# Altium integrated library Maxim Logic Switch.IntLib: 311 symbols (part 6 of 6)
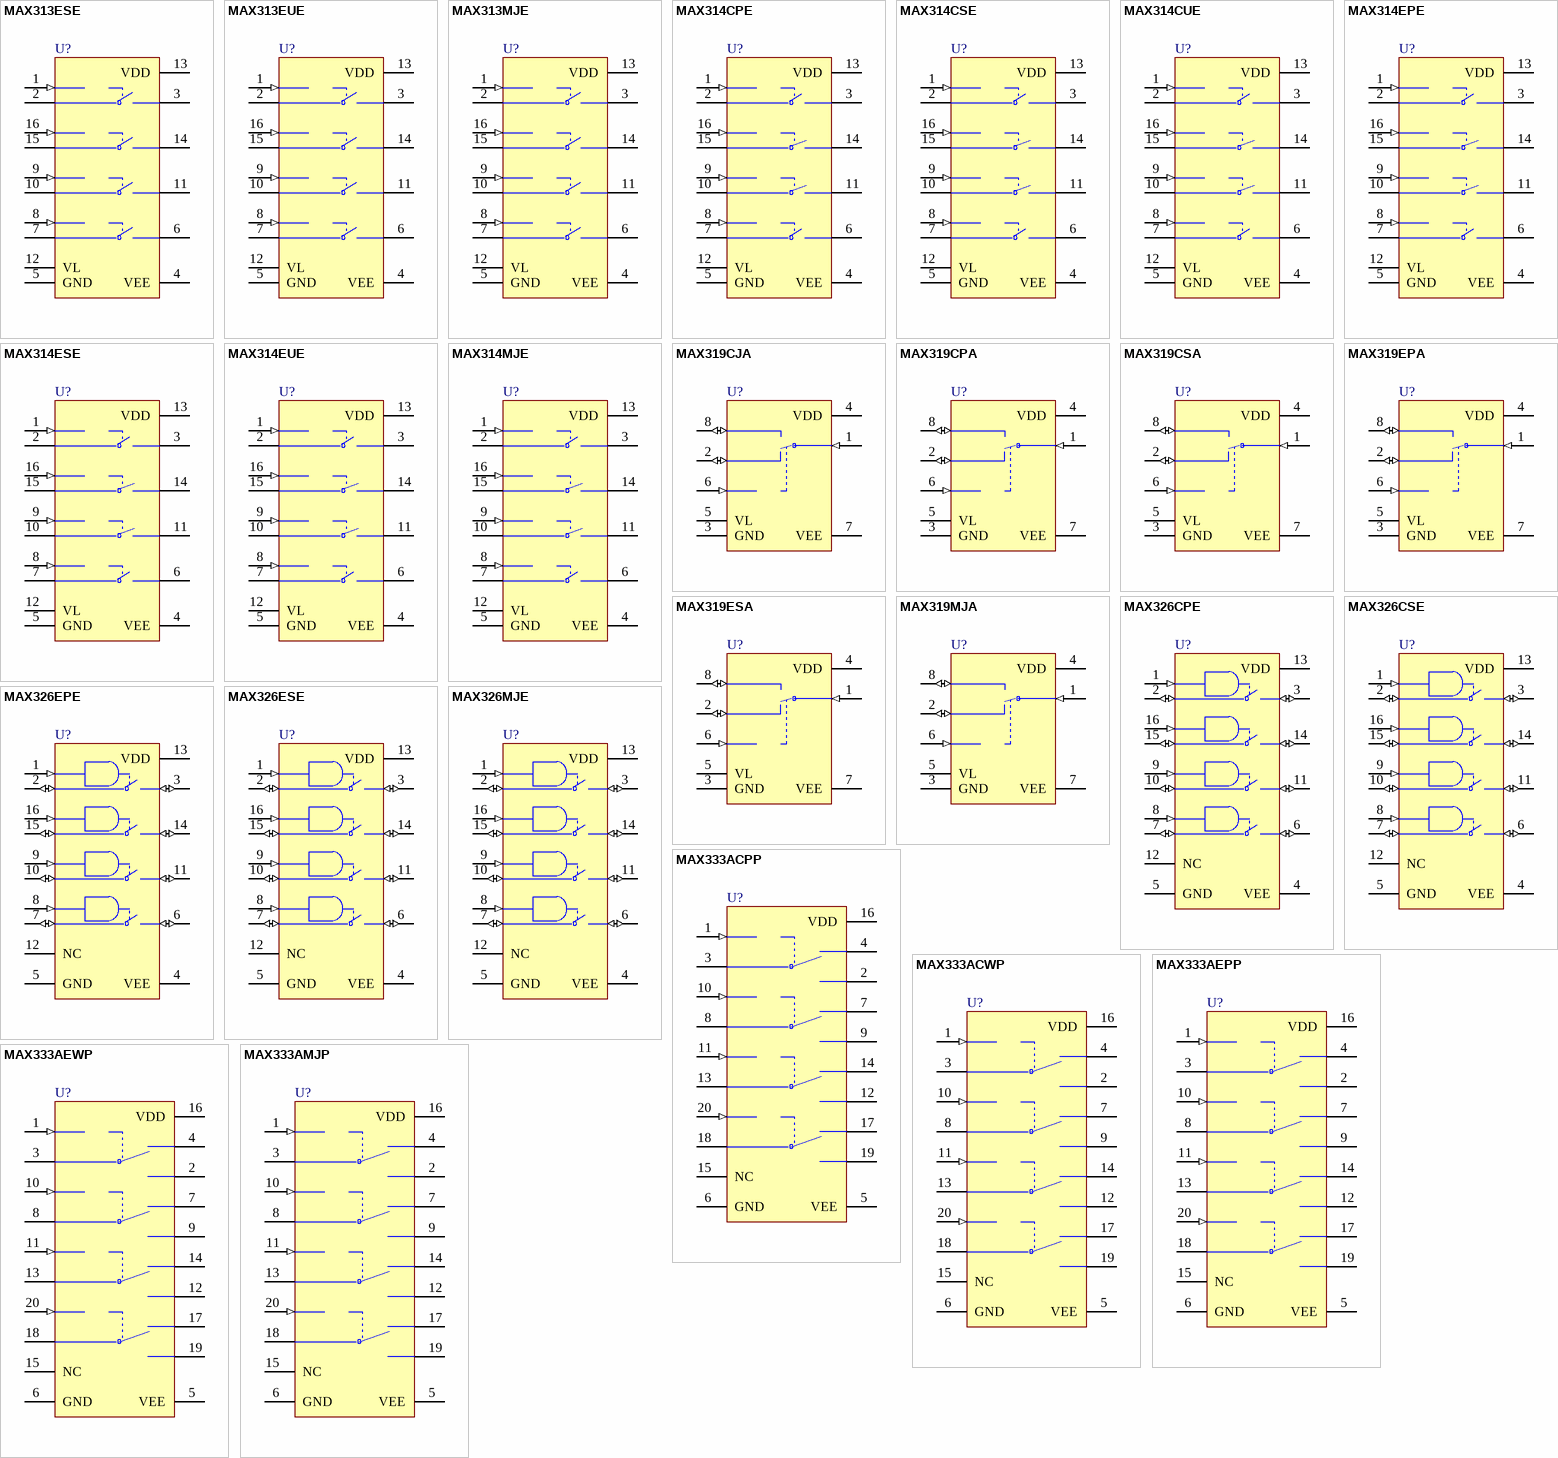
[diagram p15: symbols MAX313ESE to MAX333AMJP]

## MAX326EPE
designator U?
Quad, SPST, Ultra-Low Leakage, CMOS Analog Switch; Published: 16-Jan-2001; LatestRevisionDate: 29-May-2009; LatestRevisionNote: Component Body Added.; DatasheetVersion: Jul-1996; PackageVersion: 1997; PackageReference: PE16A; Publisher: Altium Limited; PackageDescription: DIP, 16-Pin, Row Spacing 7.62 mm, Pitch 2.54 mm; Code_JEDEC: MS-001-BB; ComponentLink1Description: Manufacturer Link; ComponentLink1URL: http://www.maxim-ic.com/; ComponentLink2Description: Datasheet; ComponentLink2URL: http://pdfserv.maxim-ic.com/en/ds/MAX326-MAX327.pdf
footprint PE16A (DIP, 16-Leads, Row Spacing 7.62mm, Pitch 2.54mm, Body 19.18x6.99mm)
3D model PE16 (DIP, 16-Pin, Row Spacing 7.62 mm, Pitch 2.54 mm)
pins: 1 IN1 (in), 2 D1 (io), 3 S1 (io), 4 VEE (power), 5 GND (power), 6 S4 (io), 7 D4 (io), 8 IN4 (in), 9 IN3 (in), 10 D3 (io), 11 S3 (io), 12 NC, 13 VDD (power), 14 S2 (io), 15 D2 (io), 16 IN2 (in)

## MAX326ESE
designator U?
Quad, SPST, Ultra-Low Leakage, CMOS Analog Switch; Published: 16-Jan-2001; LatestRevisionDate: 13-Apr-2006; LatestRevisionNote: IPC-7351 Footprint Added.; DatasheetVersion: Jul-1996; PackageReference: NSO16; Publisher: Altium Limited; PackageDescription: 16-Pin Small Outline Integrated Circuit 1.27 mm Pitch; Code_JEDEC: MS-012-AC; Code_IPC: SOIC127P600-16; ComponentLink1Description: Manufacturer Link; ComponentLink1URL: http://www.maxim-ic.com/; ComponentLink2Description: Datasheet; ComponentLink2URL: http://pdfserv.maxim-ic.com/en/ds/MAX326-MAX327.pdf
footprint NSO16_N (SOIC, 16-Leads, Body 9.9x3.9mm, Pitch 1.27mm, IPC Medium Density)
footprint NSO16_L (SOIC, 16-Leads, Body 9.9x3.9mm, Pitch 1.27mm, IPC High Density)
footprint NSO16_M (SOIC, 16-Leads, Body 9.9x3.9mm, Pitch 1.27mm, IPC Low Density)
3D model NSO16 (16-Pin Small Outline Integrated Circuit 1.27 mm Pitch)
pins: 1 IN1 (in), 2 D1 (io), 3 S1 (io), 4 VEE (power), 5 GND (power), 6 S4 (io), 7 D4 (io), 8 IN4 (in), 9 IN3 (in), 10 D3 (io), 11 S3 (io), 12 NC, 13 VDD (power), 14 S2 (io), 15 D2 (io), 16 IN2 (in)

## MAX326MJE
designator U?
Quad, SPST, Ultra-Low Leakage, CMOS Analog Switch; Published: 16-Jan-2001; LatestRevisionDate: 29-May-2009; LatestRevisionNote: Component Body Added.; DatasheetVersion: Jul-1996; PackageVersion: 1996; PackageReference: JE16; Publisher: Altium Limited; PackageDescription: DIP, 16-Pin, Row Spacing 7.62 mm, Pitch 2.54 mm; ComponentLink1Description: Manufacturer Link; ComponentLink1URL: http://www.maxim-ic.com/; ComponentLink2Description: Datasheet; ComponentLink2URL: http://pdfserv.maxim-ic.com/en/ds/MAX326-MAX327.pdf
footprint JE16 (DIP, 16-Leads, Row Spacing 7.62mm, Pitch 2.54mm, Body 20.37x6.73mm)
3D model JE16 (DIP, 16-Pin, Row Spacing 7.62 mm, Pitch 2.54 mm)
pins: 1 IN1 (in), 2 D1 (io), 3 S1 (io), 4 VEE (power), 5 GND (power), 6 S4 (io), 7 D4 (io), 8 IN4 (in), 9 IN3 (in), 10 D3 (io), 11 S3 (io), 12 NC, 13 VDD (power), 14 S2 (io), 15 D2 (io), 16 IN2 (in)

## MAX333ACPP
designator U?
Precision, Quad, SPDT, CMOS Analog Switch; Published: 16-Jan-2001; LatestRevisionDate: 29-May-2009; LatestRevisionNote: Component Body Added.; DatasheetVersion: Jun-1999; PackageVersion: RevB, 21-0043; PackageReference: PP20; Publisher: Altium Limited; PackageDescription: DIP, 20-Pin, Row Spacing 7.62 mm, Pitch 2.54 mm; Code_JEDEC: MS-001-AE; ComponentLink1Description: Manufacturer Link; ComponentLink1URL: http://www.maxim-ic.com/; ComponentLink2Description: Datasheet; ComponentLink2URL: http://pdfserv.maxim-ic.com/en/ds/MAX333A.pdf
footprint PP20 (DIP, 20-Leads, Row Spacing 7.62mm, Pitch 2.54mm, Body 26.16x7.24mm)
3D model PP20 (DIP, 20-Pin, Row Spacing 7.62 mm, Pitch 2.54 mm)
pins: 1 IN1 (in), 2 NO1, 3 COM1, 4 NC1, 5 VEE (power), 6 GND (power), 7 NC2, 8 COM2, 9 NO2, 10 IN2 (in), 11 IN3 (in), 12 NO3, 13 COM3, 14 NC3, 15 NC, 16 VDD (power), 17 NC4, 18 COM4, 19 NO4, 20 IN4 (in)

## MAX333ACWP
designator U?
Precision, Quad, SPDT, CMOS Analog Switch; Published: 16-Jan-2001; LatestRevisionDate: 13-Apr-2006; LatestRevisionNote: IPC-7351 Footprint Added.; DatasheetVersion: Jun-1999; PackageReference: WSO20; Publisher: Altium Limited; PackageDescription: 20-Pin Small Outline Integrated Circuit 1.27 mm Pitch; Code_JEDEC: MS-013-AC; Code_IPC: SOIC127P1030-20; ComponentLink1Description: Manufacturer Link; ComponentLink1URL: http://www.maxim-ic.com/; ComponentLink2Description: Datasheet; ComponentLink2URL: http://pdfserv.maxim-ic.com/en/ds/MAX333A.pdf
footprint WSO20_N (SOIC, 20-Leads, Body 12.8x7.5mm, Pitch 1.27mm, IPC Medium Density)
footprint WSO20_L (SOIC, 20-Leads, Body 12.8x7.5mm, Pitch 1.27mm, IPC High Density)
footprint WSO20_M (SOIC, 20-Leads, Body 12.8x7.5mm, Pitch 1.27mm, IPC Low Density)
3D model WSO20 (20-Pin Small Outline Integrated Circuit 1.27 mm Pitch)
pins: 1 IN1 (in), 2 NO1, 3 COM1, 4 NC1, 5 VEE (power), 6 GND (power), 7 NC2, 8 COM2, 9 NO2, 10 IN2 (in), 11 IN3 (in), 12 NO3, 13 COM3, 14 NC3, 15 NC, 16 VDD (power), 17 NC4, 18 COM4, 19 NO4, 20 IN4 (in)

## MAX333AEPP
designator U?
Precision, Quad, SPDT, CMOS Analog Switch; Published: 16-Jan-2001; LatestRevisionDate: 29-May-2009; LatestRevisionNote: Component Body Added.; DatasheetVersion: Jun-1999; PackageVersion: RevB, 21-0043; PackageReference: PP20; Publisher: Altium Limited; PackageDescription: DIP, 20-Pin, Row Spacing 7.62 mm, Pitch 2.54 mm; Code_JEDEC: MS-001-AE; ComponentLink1Description: Manufacturer Link; ComponentLink1URL: http://www.maxim-ic.com/; ComponentLink2Description: Datasheet; ComponentLink2URL: http://pdfserv.maxim-ic.com/en/ds/MAX333A.pdf
footprint PP20 (DIP, 20-Leads, Row Spacing 7.62mm, Pitch 2.54mm, Body 26.16x7.24mm)
3D model PP20 (DIP, 20-Pin, Row Spacing 7.62 mm, Pitch 2.54 mm)
pins: 1 IN1 (in), 2 NO1, 3 COM1, 4 NC1, 5 VEE (power), 6 GND (power), 7 NC2, 8 COM2, 9 NO2, 10 IN2 (in), 11 IN3 (in), 12 NO3, 13 COM3, 14 NC3, 15 NC, 16 VDD (power), 17 NC4, 18 COM4, 19 NO4, 20 IN4 (in)

## MAX333AEWP
designator U?
Precision, Quad, SPDT, CMOS Analog Switch; Published: 16-Jan-2001; LatestRevisionDate: 13-Apr-2006; LatestRevisionNote: IPC-7351 Footprint Added.; DatasheetVersion: Jun-1999; PackageReference: WSO20; Publisher: Altium Limited; PackageDescription: 20-Pin Small Outline Integrated Circuit 1.27 mm Pitch; Code_JEDEC: MS-013-AC; Code_IPC: SOIC127P1030-20; ComponentLink1Description: Manufacturer Link; ComponentLink1URL: http://www.maxim-ic.com/; ComponentLink2Description: Datasheet; ComponentLink2URL: http://pdfserv.maxim-ic.com/en/ds/MAX333A.pdf
footprint WSO20_N (SOIC, 20-Leads, Body 12.8x7.5mm, Pitch 1.27mm, IPC Medium Density)
footprint WSO20_L (SOIC, 20-Leads, Body 12.8x7.5mm, Pitch 1.27mm, IPC High Density)
footprint WSO20_M (SOIC, 20-Leads, Body 12.8x7.5mm, Pitch 1.27mm, IPC Low Density)
3D model WSO20 (20-Pin Small Outline Integrated Circuit 1.27 mm Pitch)
pins: 1 IN1 (in), 2 NO1, 3 COM1, 4 NC1, 5 VEE (power), 6 GND (power), 7 NC2, 8 COM2, 9 NO2, 10 IN2 (in), 11 IN3 (in), 12 NO3, 13 COM3, 14 NC3, 15 NC, 16 VDD (power), 17 NC4, 18 COM4, 19 NO4, 20 IN4 (in)

## MAX333AMJP
designator U?
Precision, Quad, SPDT, CMOS Analog Switch; Published: 16-Jan-2001; LatestRevisionDate: 29-May-2009; LatestRevisionNote: Component Body Added.; DatasheetVersion: Jun-1999; PackageVersion: 1996; PackageReference: JP20; Publisher: Altium Limited; PackageDescription: DIP, 20-Pin, Row Spacing 7.62 mm, Pitch 2.54 mm; Code_JEDEC: MS-001-AD; ComponentLink1Description: Manufacturer Link; ComponentLink1URL: http://www.maxim-ic.com/; ComponentLink2Description: Datasheet; ComponentLink2URL: http://pdfserv.maxim-ic.com/en/ds/MAX333A.pdf
footprint JP20 (DIP, 20-Leads, Row Spacing 7.62mm, Pitch 2.54mm, Body 25.91x6.73mm)
3D model PP20 (DIP, 20-Pin, Row Spacing 7.62 mm, Pitch 2.54 mm)
pins: 1 IN1 (in), 2 NO1, 3 COM1, 4 NC1, 5 VEE (power), 6 GND (power), 7 NC2, 8 COM2, 9 NO2, 10 IN2 (in), 11 IN3 (in), 12 NO3, 13 COM3, 14 NC3, 15 NC, 16 VDD (power), 17 NC4, 18 COM4, 19 NO4, 20 IN4 (in)

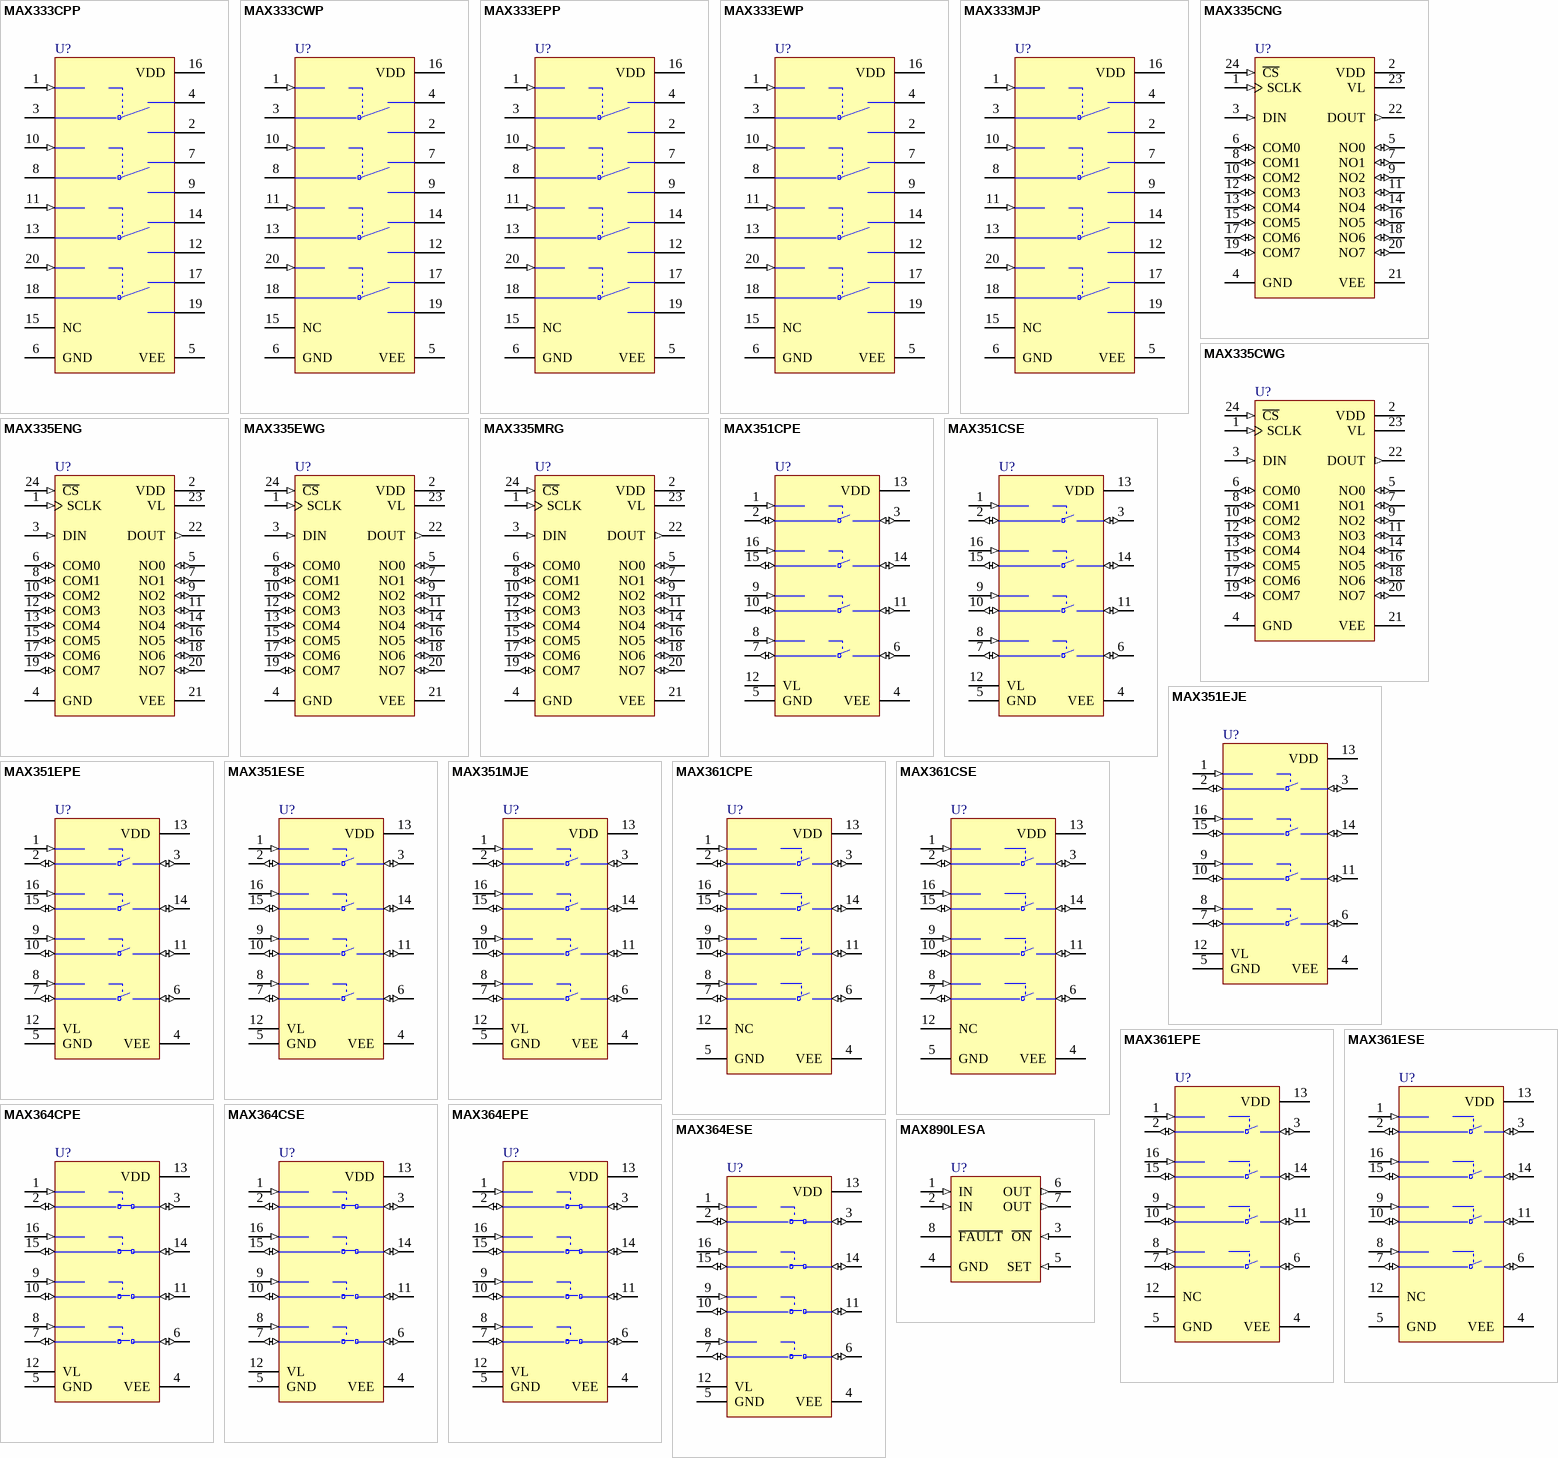
[diagram p9: symbols MAX333CPP to MAX890LESA]

## MAX333CPP
designator U?
Quad SPDT CMOS Analog Switch; Published: 16-Jan-2001; LatestRevisionDate: 29-May-2009; LatestRevisionNote: Component Body Added.; DatasheetVersion: 1990; PackageVersion: RevB, 21-0043; PackageReference: PP20; Publisher: Altium Limited; PackageDescription: DIP, 20-Pin, Row Spacing 7.62 mm, Pitch 2.54 mm; Code_JEDEC: MS-001-AE; ComponentLink1Description: Manufacturer Link; ComponentLink1URL: http://www.maxim-ic.com/
footprint PP20 (DIP, 20-Leads, Row Spacing 7.62mm, Pitch 2.54mm, Body 26.16x7.24mm)
3D model PP20 (DIP, 20-Pin, Row Spacing 7.62 mm, Pitch 2.54 mm)
pins: 1 IN1 (in), 2 NO1, 3 COM1, 4 NC1, 5 VEE (power), 6 GND (power), 7 NC2, 8 COM2, 9 NO2, 10 IN2 (in), 11 IN3 (in), 12 NO3, 13 COM3, 14 NC3, 15 NC, 16 VDD (power), 17 NC4, 18 COM4, 19 NO4, 20 IN4 (in)

## MAX333CWP
designator U?
Quad SPDT CMOS Analog Switch; Published: 16-Jan-2001; LatestRevisionDate: 13-Apr-2006; LatestRevisionNote: IPC-7351 Footprint Added.; DatasheetVersion: 1990; PackageReference: WSO20; Publisher: Altium Limited; PackageDescription: 20-Pin Small Outline Integrated Circuit 1.27 mm Pitch; Code_JEDEC: MS-013-AC; Code_IPC: SOIC127P1030-20; ComponentLink1Description: Manufacturer Link; ComponentLink1URL: http://www.maxim-ic.com/
footprint WSO20_N (SOIC, 20-Leads, Body 12.8x7.5mm, Pitch 1.27mm, IPC Medium Density)
footprint WSO20_L (SOIC, 20-Leads, Body 12.8x7.5mm, Pitch 1.27mm, IPC High Density)
footprint WSO20_M (SOIC, 20-Leads, Body 12.8x7.5mm, Pitch 1.27mm, IPC Low Density)
3D model WSO20 (20-Pin Small Outline Integrated Circuit 1.27 mm Pitch)
pins: 1 IN1 (in), 2 NO1, 3 COM1, 4 NC1, 5 VEE (power), 6 GND (power), 7 NC2, 8 COM2, 9 NO2, 10 IN2 (in), 11 IN3 (in), 12 NO3, 13 COM3, 14 NC3, 15 NC, 16 VDD (power), 17 NC4, 18 COM4, 19 NO4, 20 IN4 (in)

## MAX333EPP
designator U?
Quad SPDT CMOS Analog Switch; Published: 16-Jan-2001; LatestRevisionDate: 29-May-2009; LatestRevisionNote: Component Body Added.; DatasheetVersion: 1990; PackageVersion: RevB, 21-0043; PackageReference: PP20; Publisher: Altium Limited; PackageDescription: DIP, 20-Pin, Row Spacing 7.62 mm, Pitch 2.54 mm; Code_JEDEC: MS-001-AE; ComponentLink1Description: Manufacturer Link; ComponentLink1URL: http://www.maxim-ic.com/
footprint PP20 (DIP, 20-Leads, Row Spacing 7.62mm, Pitch 2.54mm, Body 26.16x7.24mm)
3D model PP20 (DIP, 20-Pin, Row Spacing 7.62 mm, Pitch 2.54 mm)
pins: 1 IN1 (in), 2 NO1, 3 COM1, 4 NC1, 5 VEE (power), 6 GND (power), 7 NC2, 8 COM2, 9 NO2, 10 IN2 (in), 11 IN3 (in), 12 NO3, 13 COM3, 14 NC3, 15 NC, 16 VDD (power), 17 NC4, 18 COM4, 19 NO4, 20 IN4 (in)

## MAX333EWP
designator U?
Quad SPDT CMOS Analog Switch; Published: 16-Jan-2001; LatestRevisionDate: 13-Apr-2006; LatestRevisionNote: IPC-7351 Footprint Added.; DatasheetVersion: 1990; PackageReference: WSO20; Publisher: Altium Limited; PackageDescription: 20-Pin Small Outline Integrated Circuit 1.27 mm Pitch; Code_JEDEC: MS-013-AC; Code_IPC: SOIC127P1030-20; ComponentLink1Description: Manufacturer Link; ComponentLink1URL: http://www.maxim-ic.com/
footprint WSO20_N (SOIC, 20-Leads, Body 12.8x7.5mm, Pitch 1.27mm, IPC Medium Density)
footprint WSO20_L (SOIC, 20-Leads, Body 12.8x7.5mm, Pitch 1.27mm, IPC High Density)
footprint WSO20_M (SOIC, 20-Leads, Body 12.8x7.5mm, Pitch 1.27mm, IPC Low Density)
3D model WSO20 (20-Pin Small Outline Integrated Circuit 1.27 mm Pitch)
pins: 1 IN1 (in), 2 NO1, 3 COM1, 4 NC1, 5 VEE (power), 6 GND (power), 7 NC2, 8 COM2, 9 NO2, 10 IN2 (in), 11 IN3 (in), 12 NO3, 13 COM3, 14 NC3, 15 NC, 16 VDD (power), 17 NC4, 18 COM4, 19 NO4, 20 IN4 (in)

## MAX333MJP
designator U?
Quad SPDT CMOS Analog Switch; Published: 16-Jan-2001; LatestRevisionDate: 29-May-2009; LatestRevisionNote: Component Body Added.; DatasheetVersion: 1990; PackageVersion: 1990; PackageReference: JP20A; Publisher: Altium Limited; PackageDescription: DIP, 20-Pin, Row Spacing 7.62 mm, Pitch 2.54 mm; ComponentLink1Description: Manufacturer Link; ComponentLink1URL: http://www.maxim-ic.com/
footprint JP20A (DIP, 20-Leads, Row Spacing 7.62mm, Pitch 2.54mm, Body 24.13x6.49mm)
3D model JP20A (DIP, 20-Pin, Row Spacing 7.62 mm, Pitch 2.54 mm)
pins: 1 IN1 (in), 2 NO1, 3 COM1, 4 NC1, 5 VEE (power), 6 GND (power), 7 NC2, 8 COM2, 9 NO2, 10 IN2 (in), 11 IN3 (in), 12 NO3, 13 COM3, 14 NC3, 15 NC, 16 VDD (power), 17 NC4, 18 COM4, 19 NO4, 20 IN4 (in)

## MAX335CNG
designator U?
Serial Controlled, 8-Channel SPST Switch; Published: 16-Jan-2001; LatestRevisionDate: 29-May-2009; LatestRevisionNote: Component Body Added.; DatasheetVersion: Jul-1996; PackageReference: NG24B; Publisher: Altium Limited; PackageDescription: DIP, 24-Pin, Row Spacing 7.62 mm, Pitch 2.54 mm; Code_JEDEC: MS-001-AF; ComponentLink1Description: Manufacturer Link; ComponentLink1URL: http://www.maxim-ic.com/; ComponentLink2Description: Datasheet; ComponentLink2URL: http://pdfserv.maxim-ic.com/en/ds/MAX335.pdf
footprint NG24B (DIP, 24-Leads, Row Spacing 7.62mm, Pitch 2.54mm, Body 31.75x6.61mm)
3D model NG24 (DIP, 24-Pin, Row Spacing 7.62 mm, Pitch 2.54 mm)
pins: 1 SCLK (in), 2 VDD (power), 3 DIN (in), 4 GND (power), 5 NO0 (io), 6 COM0 (io), 7 NO1 (io), 8 COM1 (io), 9 NO2 (io), 10 COM2 (io), 11 NO3 (io), 12 COM3 (io), 13 COM4 (io), 14 NO4 (io), 15 COM5 (io), 16 NO5 (io), 17 COM6 (io), 18 NO6 (io), 19 COM7 (io), 20 NO7 (io), 21 VEE (power), 22 DOUT (out), 23 VL (power), 24 ~{CS} (in)

## MAX335CWG
designator U?
Serial Controlled, 8-Channel SPST Switch; Published: 16-Jan-2001; LatestRevisionDate: 13-Apr-2006; LatestRevisionNote: IPC-7351 Footprint Added.; DatasheetVersion: Jul-1996; PackageReference: WSO24; Publisher: Altium Limited; PackageDescription: 24-Pin Small Outline Integrated Circuit 1.27 mm Pitch; ComponentLink1Description: Manufacturer Link; ComponentLink1URL: http://www.maxim-ic.com/; ComponentLink2Description: Datasheet; ComponentLink2URL: http://pdfserv.maxim-ic.com/en/ds/MAX335.pdf
footprint WSO24_N (SOIC, 24-Leads, Body 15.4x7.5mm, Pitch 1.27mm, IPC Medium Density)
footprint WSO24_L (SOIC, 24-Leads, Body 15.4x7.5mm, Pitch 1.27mm, IPC High Density)
footprint WSO24_M (SOIC, 24-Leads, Body 15.4x7.5mm, Pitch 1.27mm, IPC Low Density)
3D model WSO24 (24-Pin Small Outline Integrated Circuit 1.27 mm Pitch)
pins: 1 SCLK (in), 2 VDD (power), 3 DIN (in), 4 GND (power), 5 NO0 (io), 6 COM0 (io), 7 NO1 (io), 8 COM1 (io), 9 NO2 (io), 10 COM2 (io), 11 NO3 (io), 12 COM3 (io), 13 COM4 (io), 14 NO4 (io), 15 COM5 (io), 16 NO5 (io), 17 COM6 (io), 18 NO6 (io), 19 COM7 (io), 20 NO7 (io), 21 VEE (power), 22 DOUT (out), 23 VL (power), 24 ~{CS} (in)

## MAX335ENG
designator U?
Serial Controlled, 8-Channel SPST Switch; Published: 16-Jan-2001; LatestRevisionDate: 29-May-2009; LatestRevisionNote: Component Body Added.; DatasheetVersion: Jul-1996; PackageReference: NG24B; Publisher: Altium Limited; PackageDescription: DIP, 24-Pin, Row Spacing 7.62 mm, Pitch 2.54 mm; Code_JEDEC: MS-001-AF; ComponentLink1Description: Manufacturer Link; ComponentLink1URL: http://www.maxim-ic.com/; ComponentLink2Description: Datasheet; ComponentLink2URL: http://pdfserv.maxim-ic.com/en/ds/MAX335.pdf
footprint NG24B (DIP, 24-Leads, Row Spacing 7.62mm, Pitch 2.54mm, Body 31.75x6.61mm)
3D model NG24 (DIP, 24-Pin, Row Spacing 7.62 mm, Pitch 2.54 mm)
pins: 1 SCLK (in), 2 VDD (power), 3 DIN (in), 4 GND (power), 5 NO0 (io), 6 COM0 (io), 7 NO1 (io), 8 COM1 (io), 9 NO2 (io), 10 COM2 (io), 11 NO3 (io), 12 COM3 (io), 13 COM4 (io), 14 NO4 (io), 15 COM5 (io), 16 NO5 (io), 17 COM6 (io), 18 NO6 (io), 19 COM7 (io), 20 NO7 (io), 21 VEE (power), 22 DOUT (out), 23 VL (power), 24 ~{CS} (in)

## MAX335EWG
designator U?
Serial Controlled, 8-Channel SPST Switch; Published: 16-Jan-2001; LatestRevisionDate: 13-Apr-2006; LatestRevisionNote: IPC-7351 Footprint Added.; DatasheetVersion: Jul-1996; PackageReference: WSO24; Publisher: Altium Limited; PackageDescription: 24-Pin Small Outline Integrated Circuit 1.27 mm Pitch; ComponentLink1Description: Manufacturer Link; ComponentLink1URL: http://www.maxim-ic.com/; ComponentLink2Description: Datasheet; ComponentLink2URL: http://pdfserv.maxim-ic.com/en/ds/MAX335.pdf
footprint WSO24_N (SOIC, 24-Leads, Body 15.4x7.5mm, Pitch 1.27mm, IPC Medium Density)
footprint WSO24_L (SOIC, 24-Leads, Body 15.4x7.5mm, Pitch 1.27mm, IPC High Density)
footprint WSO24_M (SOIC, 24-Leads, Body 15.4x7.5mm, Pitch 1.27mm, IPC Low Density)
3D model WSO24 (24-Pin Small Outline Integrated Circuit 1.27 mm Pitch)
pins: 1 SCLK (in), 2 VDD (power), 3 DIN (in), 4 GND (power), 5 NO0 (io), 6 COM0 (io), 7 NO1 (io), 8 COM1 (io), 9 NO2 (io), 10 COM2 (io), 11 NO3 (io), 12 COM3 (io), 13 COM4 (io), 14 NO4 (io), 15 COM5 (io), 16 NO5 (io), 17 COM6 (io), 18 NO6 (io), 19 COM7 (io), 20 NO7 (io), 21 VEE (power), 22 DOUT (out), 23 VL (power), 24 ~{CS} (in)

## MAX335MRG
designator U?
Serial Controlled, 8-Channel SPST Switch; Published: 16-Jan-2001; LatestRevisionDate: 29-May-2009; LatestRevisionNote: Component Body Added.; DatasheetVersion: Jul-1996; PackageVersion: 1996; PackageReference: RG24; Publisher: Altium Limited; PackageDescription: DIP, 24-Pin, Row Spacing 7.62 mm, Pitch 2.54 mm; Code_JEDEC: MS-001-AF; ComponentLink1Description: Manufacturer Link; ComponentLink1URL: http://www.maxim-ic.com/; ComponentLink2Description: Datasheet; ComponentLink2URL: http://pdfserv.maxim-ic.com/en/ds/MAX335.pdf
footprint RG24 (DIP, 24-Leads, Row Spacing 7.62mm, Pitch 2.54mm, Body 31.88x6.73mm)
3D model NG24 (DIP, 24-Pin, Row Spacing 7.62 mm, Pitch 2.54 mm)
pins: 1 SCLK (in), 2 VDD (power), 3 DIN (in), 4 GND (power), 5 NO0 (io), 6 COM0 (io), 7 NO1 (io), 8 COM1 (io), 9 NO2 (io), 10 COM2 (io), 11 NO3 (io), 12 COM3 (io), 13 COM4 (io), 14 NO4 (io), 15 COM5 (io), 16 NO5 (io), 17 COM6 (io), 18 NO6 (io), 19 COM7 (io), 20 NO7 (io), 21 VEE (power), 22 DOUT (out), 23 VL (power), 24 ~{CS} (in)

## MAX351CPE
designator U?
Precision, Quad SPST Analog Switch; Published: 16-Jan-2001; LatestRevisionDate: 29-May-2009; LatestRevisionNote: Component Body Added.; DatasheetVersion: Apr-1994; PackageVersion: 1997; PackageReference: PE16A; Publisher: Altium Limited; PackageDescription: DIP, 16-Pin, Row Spacing 7.62 mm, Pitch 2.54 mm; Code_JEDEC: MS-001-BB; ComponentLink1Description: Manufacturer Link; ComponentLink1URL: http://www.maxim-ic.com/; ComponentLink2Description: Datasheet; ComponentLink2URL: http://pdfserv.maxim-ic.com/en/ds/MAX351-MAX353.pdf
footprint PE16A (DIP, 16-Leads, Row Spacing 7.62mm, Pitch 2.54mm, Body 19.18x6.99mm)
3D model PE16 (DIP, 16-Pin, Row Spacing 7.62 mm, Pitch 2.54 mm)
pins: 1 IN1 (in), 2 COM1 (io), 3 NC1 (io), 4 VEE (power), 5 GND (power), 6 NC4 (io), 7 COM4 (io), 8 IN4 (in), 9 IN3 (in), 10 COM3 (io), 11 NC3 (io), 12 VL (power), 13 VDD (power), 14 NC2 (io), 15 COM2 (io), 16 IN2 (in)

## MAX351CSE
designator U?
Precision, Quad SPST Analog Switch; Published: 16-Jan-2001; LatestRevisionDate: 13-Apr-2006; LatestRevisionNote: IPC-7351 Footprint Added.; DatasheetVersion: Apr-1994; PackageReference: NSO16; Publisher: Altium Limited; PackageDescription: 16-Pin Small Outline Integrated Circuit 1.27 mm Pitch; Code_JEDEC: MS-012-AC; Code_IPC: SOIC127P600-16; ComponentLink1Description: Manufacturer Link; ComponentLink1URL: http://www.maxim-ic.com/; ComponentLink2Description: Datasheet; ComponentLink2URL: http://pdfserv.maxim-ic.com/en/ds/MAX351-MAX353.pdf
footprint NSO16_N (SOIC, 16-Leads, Body 9.9x3.9mm, Pitch 1.27mm, IPC Medium Density)
footprint NSO16_L (SOIC, 16-Leads, Body 9.9x3.9mm, Pitch 1.27mm, IPC High Density)
footprint NSO16_M (SOIC, 16-Leads, Body 9.9x3.9mm, Pitch 1.27mm, IPC Low Density)
3D model NSO16 (16-Pin Small Outline Integrated Circuit 1.27 mm Pitch)
pins: 1 IN1 (in), 2 COM1 (io), 3 NC1 (io), 4 VEE (power), 5 GND (power), 6 NC4 (io), 7 COM4 (io), 8 IN4 (in), 9 IN3 (in), 10 COM3 (io), 11 NC3 (io), 12 VL (power), 13 VDD (power), 14 NC2 (io), 15 COM2 (io), 16 IN2 (in)

## MAX351EJE
designator U?
Precision, Quad SPST Analog Switch; Published: 16-Jan-2001; LatestRevisionDate: 29-May-2009; LatestRevisionNote: Component Body Added.; DatasheetVersion: Apr-1994; PackageVersion: 1996; PackageReference: JE16; Publisher: Altium Limited; PackageDescription: DIP, 16-Pin, Row Spacing 7.62 mm, Pitch 2.54 mm; ComponentLink1Description: Manufacturer Link; ComponentLink1URL: http://www.maxim-ic.com/; ComponentLink2Description: Datasheet; ComponentLink2URL: http://pdfserv.maxim-ic.com/en/ds/MAX351-MAX353.pdf
footprint JE16 (DIP, 16-Leads, Row Spacing 7.62mm, Pitch 2.54mm, Body 20.37x6.73mm)
3D model JE16 (DIP, 16-Pin, Row Spacing 7.62 mm, Pitch 2.54 mm)
pins: 1 IN1 (in), 2 COM1 (io), 3 NC1 (io), 4 VEE (power), 5 GND (power), 6 NC4 (io), 7 COM4 (io), 8 IN4 (in), 9 IN3 (in), 10 COM3 (io), 11 NC3 (io), 12 VL (power), 13 VDD (power), 14 NC2 (io), 15 COM2 (io), 16 IN2 (in)

## MAX351EPE
designator U?
Precision, Quad SPST Analog Switch; Published: 16-Jan-2001; LatestRevisionDate: 29-May-2009; LatestRevisionNote: Component Body Added.; DatasheetVersion: Apr-1994; PackageVersion: 1997; PackageReference: PE16A; Publisher: Altium Limited; PackageDescription: DIP, 16-Pin, Row Spacing 7.62 mm, Pitch 2.54 mm; Code_JEDEC: MS-001-BB; ComponentLink1Description: Manufacturer Link; ComponentLink1URL: http://www.maxim-ic.com/; ComponentLink2Description: Datasheet; ComponentLink2URL: http://pdfserv.maxim-ic.com/en/ds/MAX351-MAX353.pdf
footprint PE16A (DIP, 16-Leads, Row Spacing 7.62mm, Pitch 2.54mm, Body 19.18x6.99mm)
3D model PE16 (DIP, 16-Pin, Row Spacing 7.62 mm, Pitch 2.54 mm)
pins: 1 IN1 (in), 2 COM1 (io), 3 NC1 (io), 4 VEE (power), 5 GND (power), 6 NC4 (io), 7 COM4 (io), 8 IN4 (in), 9 IN3 (in), 10 COM3 (io), 11 NC3 (io), 12 VL (power), 13 VDD (power), 14 NC2 (io), 15 COM2 (io), 16 IN2 (in)

## MAX351ESE
designator U?
Precision, Quad SPST Analog Switch; Published: 16-Jan-2001; LatestRevisionDate: 13-Apr-2006; LatestRevisionNote: IPC-7351 Footprint Added.; DatasheetVersion: Apr-1994; PackageReference: NSO16; Publisher: Altium Limited; PackageDescription: 16-Pin Small Outline Integrated Circuit 1.27 mm Pitch; Code_JEDEC: MS-012-AC; Code_IPC: SOIC127P600-16; ComponentLink1Description: Manufacturer Link; ComponentLink1URL: http://www.maxim-ic.com/; ComponentLink2Description: Datasheet; ComponentLink2URL: http://pdfserv.maxim-ic.com/en/ds/MAX351-MAX353.pdf
footprint NSO16_N (SOIC, 16-Leads, Body 9.9x3.9mm, Pitch 1.27mm, IPC Medium Density)
footprint NSO16_L (SOIC, 16-Leads, Body 9.9x3.9mm, Pitch 1.27mm, IPC High Density)
footprint NSO16_M (SOIC, 16-Leads, Body 9.9x3.9mm, Pitch 1.27mm, IPC Low Density)
3D model NSO16 (16-Pin Small Outline Integrated Circuit 1.27 mm Pitch)
pins: 1 IN1 (in), 2 COM1 (io), 3 NC1 (io), 4 VEE (power), 5 GND (power), 6 NC4 (io), 7 COM4 (io), 8 IN4 (in), 9 IN3 (in), 10 COM3 (io), 11 NC3 (io), 12 VL (power), 13 VDD (power), 14 NC2 (io), 15 COM2 (io), 16 IN2 (in)

## MAX351MJE
designator U?
Precision, Quad SPST Analog Switch; Published: 16-Jan-2001; LatestRevisionDate: 29-May-2009; LatestRevisionNote: Component Body Added.; DatasheetVersion: Apr-1994; PackageVersion: 1996; PackageReference: JE16; Publisher: Altium Limited; PackageDescription: DIP, 16-Pin, Row Spacing 7.62 mm, Pitch 2.54 mm; ComponentLink1Description: Manufacturer Link; ComponentLink1URL: http://www.maxim-ic.com/; ComponentLink2Description: Datasheet; ComponentLink2URL: http://pdfserv.maxim-ic.com/en/ds/MAX351-MAX353.pdf
footprint JE16 (DIP, 16-Leads, Row Spacing 7.62mm, Pitch 2.54mm, Body 20.37x6.73mm)
3D model JE16 (DIP, 16-Pin, Row Spacing 7.62 mm, Pitch 2.54 mm)
pins: 1 IN1 (in), 2 COM1 (io), 3 NC1 (io), 4 VEE (power), 5 GND (power), 6 NC4 (io), 7 COM4 (io), 8 IN4 (in), 9 IN3 (in), 10 COM3 (io), 11 NC3 (io), 12 VL (power), 13 VDD (power), 14 NC2 (io), 15 COM2 (io), 16 IN2 (in)

## MAX361CPE
designator U?
Precision, Quad, SPST Analog Switch; Published: 16-Jan-2001; LatestRevisionDate: 29-May-2009; LatestRevisionNote: Component Body Added.; DatasheetVersion: Sep-1993; PackageVersion: 1997; PackageReference: PE16A; Publisher: Altium Limited; PackageDescription: DIP, 16-Pin, Row Spacing 7.62 mm, Pitch 2.54 mm; Code_JEDEC: MS-001-BB; ComponentLink1Description: Manufacturer Link; ComponentLink1URL: http://www.maxim-ic.com/; ComponentLink2Description: Datasheet; ComponentLink2URL: http://pdfserv.maxim-ic.com/en/ds/MAX361-MAX362.pdf
footprint PE16A (DIP, 16-Leads, Row Spacing 7.62mm, Pitch 2.54mm, Body 19.18x6.99mm)
3D model PE16 (DIP, 16-Pin, Row Spacing 7.62 mm, Pitch 2.54 mm)
pins: 1 IN1 (in), 2 COM1 (io), 3 NC1 (io), 4 VEE (power), 5 GND (power), 6 NC4 (io), 7 COM4 (io), 8 IN4 (in), 9 IN3 (in), 10 COM3 (io), 11 NC3 (io), 12 NC, 13 VDD (power), 14 NC2 (io), 15 COM2 (io), 16 IN2 (in)

## MAX361CSE
designator U?
Precision, Quad, SPST Analog Switch; Published: 16-Jan-2001; LatestRevisionDate: 13-Apr-2006; LatestRevisionNote: IPC-7351 Footprint Added.; DatasheetVersion: Sep-1993; PackageReference: NSO16; Publisher: Altium Limited; PackageDescription: 16-Pin Small Outline Integrated Circuit 1.27 mm Pitch; Code_JEDEC: MS-012-AC; Code_IPC: SOIC127P600-16; ComponentLink1Description: Manufacturer Link; ComponentLink1URL: http://www.maxim-ic.com/; ComponentLink2Description: Datasheet; ComponentLink2URL: http://pdfserv.maxim-ic.com/en/ds/MAX361-MAX362.pdf
footprint NSO16_N (SOIC, 16-Leads, Body 9.9x3.9mm, Pitch 1.27mm, IPC Medium Density)
footprint NSO16_L (SOIC, 16-Leads, Body 9.9x3.9mm, Pitch 1.27mm, IPC High Density)
footprint NSO16_M (SOIC, 16-Leads, Body 9.9x3.9mm, Pitch 1.27mm, IPC Low Density)
3D model NSO16 (16-Pin Small Outline Integrated Circuit 1.27 mm Pitch)
pins: 1 IN1 (in), 2 COM1 (io), 3 NC1 (io), 4 VEE (power), 5 GND (power), 6 NC4 (io), 7 COM4 (io), 8 IN4 (in), 9 IN3 (in), 10 COM3 (io), 11 NC3 (io), 12 NC, 13 VDD (power), 14 NC2 (io), 15 COM2 (io), 16 IN2 (in)

## MAX361EPE
designator U?
Precision, Quad, SPST Analog Switch; Published: 16-Jan-2001; LatestRevisionDate: 29-May-2009; LatestRevisionNote: Component Body Added.; DatasheetVersion: Sep-1993; PackageVersion: 1997; PackageReference: PE16A; Publisher: Altium Limited; PackageDescription: DIP, 16-Pin, Row Spacing 7.62 mm, Pitch 2.54 mm; Code_JEDEC: MS-001-BB; ComponentLink1Description: Manufacturer Link; ComponentLink1URL: http://www.maxim-ic.com/; ComponentLink2Description: Datasheet; ComponentLink2URL: http://pdfserv.maxim-ic.com/en/ds/MAX361-MAX362.pdf
footprint PE16A (DIP, 16-Leads, Row Spacing 7.62mm, Pitch 2.54mm, Body 19.18x6.99mm)
3D model PE16 (DIP, 16-Pin, Row Spacing 7.62 mm, Pitch 2.54 mm)
pins: 1 IN1 (in), 2 COM1 (io), 3 NC1 (io), 4 VEE (power), 5 GND (power), 6 NC4 (io), 7 COM4 (io), 8 IN4 (in), 9 IN3 (in), 10 COM3 (io), 11 NC3 (io), 12 NC, 13 VDD (power), 14 NC2 (io), 15 COM2 (io), 16 IN2 (in)

## MAX361ESE
designator U?
Precision, Quad, SPST Analog Switch; Published: 16-Jan-2001; LatestRevisionDate: 13-Apr-2006; LatestRevisionNote: IPC-7351 Footprint Added.; DatasheetVersion: Sep-1993; PackageReference: NSO16; Publisher: Altium Limited; PackageDescription: 16-Pin Small Outline Integrated Circuit 1.27 mm Pitch; Code_JEDEC: MS-012-AC; Code_IPC: SOIC127P600-16; ComponentLink1Description: Manufacturer Link; ComponentLink1URL: http://www.maxim-ic.com/; ComponentLink2Description: Datasheet; ComponentLink2URL: http://pdfserv.maxim-ic.com/en/ds/MAX361-MAX362.pdf
footprint NSO16_N (SOIC, 16-Leads, Body 9.9x3.9mm, Pitch 1.27mm, IPC Medium Density)
footprint NSO16_L (SOIC, 16-Leads, Body 9.9x3.9mm, Pitch 1.27mm, IPC High Density)
footprint NSO16_M (SOIC, 16-Leads, Body 9.9x3.9mm, Pitch 1.27mm, IPC Low Density)
3D model NSO16 (16-Pin Small Outline Integrated Circuit 1.27 mm Pitch)
pins: 1 IN1 (in), 2 COM1 (io), 3 NC1 (io), 4 VEE (power), 5 GND (power), 6 NC4 (io), 7 COM4 (io), 8 IN4 (in), 9 IN3 (in), 10 COM3 (io), 11 NC3 (io), 12 NC, 13 VDD (power), 14 NC2 (io), 15 COM2 (io), 16 IN2 (in)

## MAX364CPE
designator U?
Precision, Quad, SPST Analog Switch; Published: 16-Jan-2001; LatestRevisionDate: 29-May-2009; LatestRevisionNote: Component Body Added.; DatasheetVersion: Sep-1993; PackageVersion: 1997; PackageReference: PE16A; Publisher: Altium Limited; PackageDescription: DIP, 16-Pin, Row Spacing 7.62 mm, Pitch 2.54 mm; Code_JEDEC: MS-001-BB; ComponentLink1Description: Manufacturer Link; ComponentLink1URL: http://www.maxim-ic.com/; ComponentLink2Description: Datasheet; ComponentLink2URL: http://pdfserv.maxim-ic.com/en/ds/MAX364-MAX365.pdf
footprint PE16A (DIP, 16-Leads, Row Spacing 7.62mm, Pitch 2.54mm, Body 19.18x6.99mm)
3D model PE16 (DIP, 16-Pin, Row Spacing 7.62 mm, Pitch 2.54 mm)
pins: 1 IN1 (in), 2 COM1 (io), 3 NC1 (io), 4 VEE (power), 5 GND (power), 6 NC4 (io), 7 COM4 (io), 8 IN4 (in), 9 IN3 (in), 10 COM3 (io), 11 NC3 (io), 12 VL (power), 13 VDD (power), 14 NC2 (io), 15 COM2 (io), 16 IN2 (in)

## MAX364CSE
designator U?
Precision, Quad, SPST Analog Switch; Published: 16-Jan-2001; LatestRevisionDate: 13-Apr-2006; LatestRevisionNote: IPC-7351 Footprint Added.; DatasheetVersion: Sep-1993; PackageReference: NSO16; Publisher: Altium Limited; PackageDescription: 16-Pin Small Outline Integrated Circuit 1.27 mm Pitch; Code_JEDEC: MS-012-AC; Code_IPC: SOIC127P600-16; ComponentLink1Description: Manufacturer Link; ComponentLink1URL: http://www.maxim-ic.com/; ComponentLink2Description: Datasheet; ComponentLink2URL: http://pdfserv.maxim-ic.com/en/ds/MAX364-MAX365.pdf
footprint NSO16_N (SOIC, 16-Leads, Body 9.9x3.9mm, Pitch 1.27mm, IPC Medium Density)
footprint NSO16_L (SOIC, 16-Leads, Body 9.9x3.9mm, Pitch 1.27mm, IPC High Density)
footprint NSO16_M (SOIC, 16-Leads, Body 9.9x3.9mm, Pitch 1.27mm, IPC Low Density)
3D model NSO16 (16-Pin Small Outline Integrated Circuit 1.27 mm Pitch)
pins: 1 IN1 (in), 2 COM1 (io), 3 NC1 (io), 4 VEE (power), 5 GND (power), 6 NC4 (io), 7 COM4 (io), 8 IN4 (in), 9 IN3 (in), 10 COM3 (io), 11 NC3 (io), 12 VL (power), 13 VDD (power), 14 NC2 (io), 15 COM2 (io), 16 IN2 (in)

## MAX364EPE
designator U?
Precision, Quad, SPST Analog Switch; Published: 16-Jan-2001; LatestRevisionDate: 29-May-2009; LatestRevisionNote: Component Body Added.; DatasheetVersion: Sep-1993; PackageVersion: 1997; PackageReference: PE16A; Publisher: Altium Limited; PackageDescription: DIP, 16-Pin, Row Spacing 7.62 mm, Pitch 2.54 mm; Code_JEDEC: MS-001-BB; ComponentLink1Description: Manufacturer Link; ComponentLink1URL: http://www.maxim-ic.com/; ComponentLink2Description: Datasheet; ComponentLink2URL: http://pdfserv.maxim-ic.com/en/ds/MAX364-MAX365.pdf
footprint PE16A (DIP, 16-Leads, Row Spacing 7.62mm, Pitch 2.54mm, Body 19.18x6.99mm)
3D model PE16 (DIP, 16-Pin, Row Spacing 7.62 mm, Pitch 2.54 mm)
pins: 1 IN1 (in), 2 COM1 (io), 3 NC1 (io), 4 VEE (power), 5 GND (power), 6 NC4 (io), 7 COM4 (io), 8 IN4 (in), 9 IN3 (in), 10 COM3 (io), 11 NC3 (io), 12 VL (power), 13 VDD (power), 14 NC2 (io), 15 COM2 (io), 16 IN2 (in)

## MAX364ESE
designator U?
Precision, Quad, SPST Analog Switch; Published: 16-Jan-2001; LatestRevisionDate: 13-Apr-2006; LatestRevisionNote: IPC-7351 Footprint Added.; DatasheetVersion: Sep-1993; PackageReference: NSO16; Publisher: Altium Limited; PackageDescription: 16-Pin Small Outline Integrated Circuit 1.27 mm Pitch; Code_JEDEC: MS-012-AC; Code_IPC: SOIC127P600-16; ComponentLink1Description: Manufacturer Link; ComponentLink1URL: http://www.maxim-ic.com/; ComponentLink2Description: Datasheet; ComponentLink2URL: http://pdfserv.maxim-ic.com/en/ds/MAX364-MAX365.pdf
footprint NSO16_N (SOIC, 16-Leads, Body 9.9x3.9mm, Pitch 1.27mm, IPC Medium Density)
footprint NSO16_L (SOIC, 16-Leads, Body 9.9x3.9mm, Pitch 1.27mm, IPC High Density)
footprint NSO16_M (SOIC, 16-Leads, Body 9.9x3.9mm, Pitch 1.27mm, IPC Low Density)
3D model NSO16 (16-Pin Small Outline Integrated Circuit 1.27 mm Pitch)
pins: 1 IN1 (in), 2 COM1 (io), 3 NC1 (io), 4 VEE (power), 5 GND (power), 6 NC4 (io), 7 COM4 (io), 8 IN4 (in), 9 IN3 (in), 10 COM3 (io), 11 NC3 (io), 12 VL (power), 13 VDD (power), 14 NC2 (io), 15 COM2 (io), 16 IN2 (in)

## MAX890LESA
designator U?
1A, Current-Limited, High Side P-Channel Switch with Thermal Shutdown; Published: 16-Jan-2001; LatestRevisionDate: 13-Apr-2006; LatestRevisionNote: IPC-7351 Footprint Added.; DatasheetVersion: Nov-1998; PackageReference: NSO8; Publisher: Altium Limited; PackageDescription: 8-Pin Small Outline Integrated Circuit 1.27 mm Pitch; Code_JEDEC: MS-012-AA; Code_IPC: SOIC127P600-8; ComponentLink1Description: Manufacturer Link; ComponentLink1URL: http://www.maxim-ic.com/; ComponentLink2Description: Datasheet; ComponentLink2URL: http://pdfserv.maxim-ic.com/en/ds/MAX890L.pdf
footprint NSO8_N (SOIC, 8-Leads, Body 4.9x3.9mm, Pitch 1.27mm, IPC Medium Density)
footprint NSO8_L (SOIC, 8-Leads, Body 4.9x3.9mm, Pitch 1.27mm, IPC High Density)
footprint NSO8_M (SOIC, 8-Leads, Body 4.9x3.9mm, Pitch 1.27mm, IPC Low Density)
3D model NSO8 (8-Pin Small Outline Integrated Circuit 1.27 mm Pitch)
pins: 1 IN (in), 2 IN (in), 3 ~{ON} (in), 4 GND (power), 5 SET (in), 6 OUT (out), 7 OUT (out), 8 ~{FAULT} (oc)

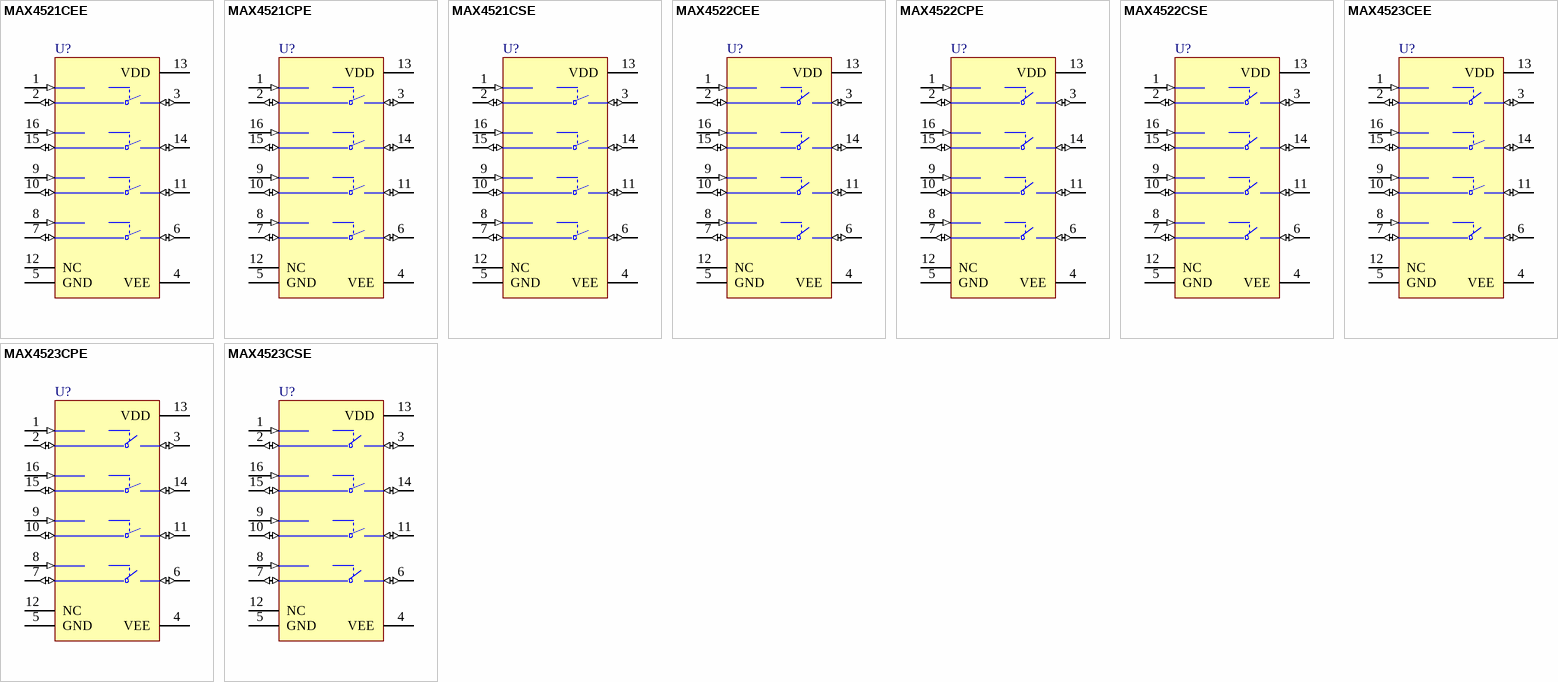
[diagram p10: symbols MAX4521CEE to MAX4523CSE]

## MAX4521CEE
designator U?
Quad, Low-Voltage, SPST Analog Switch; Published: 16-Jan-2001; LatestRevisionDate: 29-May-2009; LatestRevisionNote: IPC-7351 Footprint Added.; DatasheetVersion: Rev 3, Oct-2001; PackageVersion: 1998; PackageReference: SOP16; Publisher: Altium Limited; PackageDescription: 16-Pin Small Outline Package 0.635 mm Pitch; Code_JEDEC: MO-137-AB; Code_IPC: SOP635P600-16; ComponentLink1Description: Manufacturer Link; ComponentLink1URL: http://www.maxim-ic.com/; ComponentLink2Description: Datasheet; ComponentLink2URL: http://pdfserv.maxim-ic.com/en/ds/MAX4521-MAX4523.pdf
footprint SOP16_N (SOP, 16-Leads, Body 4.9x3.9mm, Pitch 0.635mm, IPC Medium Density)
footprint SOP16_L (SOP, 16-Leads, Body 4.9x3.9mm, Pitch 0.635mm, IPC High Density)
footprint SOP16_M (SOP, 16-Leads, Body 4.9x3.9mm, Pitch 0.635mm, IPC Low Density)
3D model SOP16 (16-Pin Small Outline Package 0.635 mm Pitch)
pins: 1 IN1 (in), 2 COM1 (io), 3 NC1 (io), 4 VEE (power), 5 GND (power), 6 NC4 (io), 7 COM4 (io), 8 IN 4 (in), 9 IN 3 (in), 10 COM3 (io), 11 NC3 (io), 12 NC, 13 VDD (power), 14 NC2 (io), 15 COM2 (io), 16 IN2 (in)

## MAX4521CPE
designator U?
Quad, Low-Voltage, SPST Analog Switch; Published: 16-Jan-2001; LatestRevisionDate: 29-May-2009; LatestRevisionNote: Component Body Added.; DatasheetVersion: Rev 3, Oct-2001; PackageVersion: 1997; PackageReference: PE16A; Publisher: Altium Limited; PackageDescription: DIP, 16-Pin, Row Spacing 7.62 mm, Pitch 2.54 mm; Code_JEDEC: MS-001-BB; ComponentLink1Description: Manufacturer Link; ComponentLink1URL: http://www.maxim-ic.com/; ComponentLink2Description: Datasheet; ComponentLink2URL: http://pdfserv.maxim-ic.com/en/ds/MAX4521-MAX4523.pdf
footprint PE16A (DIP, 16-Leads, Row Spacing 7.62mm, Pitch 2.54mm, Body 19.18x6.99mm)
3D model PE16 (DIP, 16-Pin, Row Spacing 7.62 mm, Pitch 2.54 mm)
pins: 1 IN1 (in), 2 COM1 (io), 3 NC1 (io), 4 VEE (power), 5 GND (power), 6 NC4 (io), 7 COM4 (io), 8 IN 4 (in), 9 IN 3 (in), 10 COM3 (io), 11 NC3 (io), 12 NC, 13 VDD (power), 14 NC2 (io), 15 COM2 (io), 16 IN2 (in)

## MAX4521CSE
designator U?
Quad, Low-Voltage, SPST Analog Switch; Published: 16-Jan-2001; LatestRevisionDate: 13-Apr-2006; LatestRevisionNote: IPC-7351 Footprint Added.; DatasheetVersion: Rev 3, Oct-2001; PackageReference: NSO16; Publisher: Altium Limited; PackageDescription: 16-Pin Small Outline Integrated Circuit 1.27 mm Pitch; Code_JEDEC: MS-012-AC; Code_IPC: SOIC127P600-16; ComponentLink1Description: Manufacturer Link; ComponentLink1URL: http://www.maxim-ic.com/; ComponentLink2Description: Datasheet; ComponentLink2URL: http://pdfserv.maxim-ic.com/en/ds/MAX4521-MAX4523.pdf
footprint NSO16_N (SOIC, 16-Leads, Body 9.9x3.9mm, Pitch 1.27mm, IPC Medium Density)
footprint NSO16_L (SOIC, 16-Leads, Body 9.9x3.9mm, Pitch 1.27mm, IPC High Density)
footprint NSO16_M (SOIC, 16-Leads, Body 9.9x3.9mm, Pitch 1.27mm, IPC Low Density)
3D model NSO16 (16-Pin Small Outline Integrated Circuit 1.27 mm Pitch)
pins: 1 IN1 (in), 2 COM1 (io), 3 NC1 (io), 4 VEE (power), 5 GND (power), 6 NC4 (io), 7 COM4 (io), 8 IN 4 (in), 9 IN 3 (in), 10 COM3 (io), 11 NC3 (io), 12 NC, 13 VDD (power), 14 NC2 (io), 15 COM2 (io), 16 IN2 (in)

## MAX4522CEE
designator U?
Quad, Low-Voltage, SPST Analog Switch; Published: 16-Jan-2001; LatestRevisionDate: 29-May-2009; LatestRevisionNote: IPC-7351 Footprint Added.; DatasheetVersion: Rev 3, Oct-2001; PackageVersion: 1998; PackageReference: SOP16; Publisher: Altium Limited; PackageDescription: 16-Pin Small Outline Package 0.635 mm Pitch; Code_JEDEC: MO-137-AB; Code_IPC: SOP635P600-16; ComponentLink1Description: Manufacturer Link; ComponentLink1URL: http://www.maxim-ic.com/; ComponentLink2Description: Datasheet; ComponentLink2URL: http://pdfserv.maxim-ic.com/en/ds/MAX4521-MAX4523.pdf
footprint SOP16_N (SOP, 16-Leads, Body 4.9x3.9mm, Pitch 0.635mm, IPC Medium Density)
footprint SOP16_L (SOP, 16-Leads, Body 4.9x3.9mm, Pitch 0.635mm, IPC High Density)
footprint SOP16_M (SOP, 16-Leads, Body 4.9x3.9mm, Pitch 0.635mm, IPC Low Density)
3D model SOP16 (16-Pin Small Outline Package 0.635 mm Pitch)
pins: 1 IN1 (in), 2 COM1 (io), 3 NO1 (io), 4 VEE (power), 5 GND (power), 6 NO4 (io), 7 COM4 (io), 8 IN 4 (in), 9 IN 3 (in), 10 COM3 (io), 11 NO3 (io), 12 NC, 13 VDD (power), 14 NO2 (io), 15 COM2 (io), 16 IN2 (in)

## MAX4522CPE
designator U?
Quad, Low-Voltage, SPST Analog Switch; Published: 16-Jan-2001; LatestRevisionDate: 29-May-2009; LatestRevisionNote: Component Body Added.; DatasheetVersion: Rev 3, Oct-2001; PackageVersion: 1997; PackageReference: PE16A; Publisher: Altium Limited; PackageDescription: DIP, 16-Pin, Row Spacing 7.62 mm, Pitch 2.54 mm; Code_JEDEC: MS-001-BB; ComponentLink1Description: Manufacturer Link; ComponentLink1URL: http://www.maxim-ic.com/; ComponentLink2Description: Datasheet; ComponentLink2URL: http://pdfserv.maxim-ic.com/en/ds/MAX4521-MAX4523.pdf
footprint PE16A (DIP, 16-Leads, Row Spacing 7.62mm, Pitch 2.54mm, Body 19.18x6.99mm)
3D model PE16 (DIP, 16-Pin, Row Spacing 7.62 mm, Pitch 2.54 mm)
pins: 1 IN1 (in), 2 COM1 (io), 3 NO1 (io), 4 VEE (power), 5 GND (power), 6 NO4 (io), 7 COM4 (io), 8 IN 4 (in), 9 IN 3 (in), 10 COM3 (io), 11 NO3 (io), 12 NC, 13 VDD (power), 14 NO2 (io), 15 COM2 (io), 16 IN2 (in)

## MAX4522CSE
designator U?
Quad, Low-Voltage, SPST Analog Switch; Published: 16-Jan-2001; LatestRevisionDate: 13-Apr-2006; LatestRevisionNote: IPC-7351 Footprint Added.; DatasheetVersion: Rev 3, Oct-2001; PackageReference: NSO16; Publisher: Altium Limited; PackageDescription: 16-Pin Small Outline Integrated Circuit 1.27 mm Pitch; Code_JEDEC: MS-012-AC; Code_IPC: SOIC127P600-16; ComponentLink1Description: Manufacturer Link; ComponentLink1URL: http://www.maxim-ic.com/; ComponentLink2Description: Datasheet; ComponentLink2URL: http://pdfserv.maxim-ic.com/en/ds/MAX4521-MAX4523.pdf
footprint NSO16_N (SOIC, 16-Leads, Body 9.9x3.9mm, Pitch 1.27mm, IPC Medium Density)
footprint NSO16_L (SOIC, 16-Leads, Body 9.9x3.9mm, Pitch 1.27mm, IPC High Density)
footprint NSO16_M (SOIC, 16-Leads, Body 9.9x3.9mm, Pitch 1.27mm, IPC Low Density)
3D model NSO16 (16-Pin Small Outline Integrated Circuit 1.27 mm Pitch)
pins: 1 IN1 (in), 2 COM1 (io), 3 NO1 (io), 4 VEE (power), 5 GND (power), 6 NO4 (io), 7 COM4 (io), 8 IN 4 (in), 9 IN 3 (in), 10 COM3 (io), 11 NO3 (io), 12 NC, 13 VDD (power), 14 NO2 (io), 15 COM2 (io), 16 IN2 (in)

## MAX4523CEE
designator U?
Quad, Low-Voltage, SPST Analog Switch; Published: 16-Jan-2001; LatestRevisionDate: 29-May-2009; LatestRevisionNote: IPC-7351 Footprint Added.; DatasheetVersion: Rev 3, Oct-2001; PackageVersion: 1998; PackageReference: SOP16; Publisher: Altium Limited; PackageDescription: 16-Pin Small Outline Package 0.635 mm Pitch; Code_JEDEC: MO-137-AB; Code_IPC: SOP635P600-16; ComponentLink1Description: Manufacturer Link; ComponentLink1URL: http://www.maxim-ic.com/; ComponentLink2Description: Datasheet; ComponentLink2URL: http://pdfserv.maxim-ic.com/en/ds/MAX4521-MAX4523.pdf
footprint SOP16_N (SOP, 16-Leads, Body 4.9x3.9mm, Pitch 0.635mm, IPC Medium Density)
footprint SOP16_L (SOP, 16-Leads, Body 4.9x3.9mm, Pitch 0.635mm, IPC High Density)
footprint SOP16_M (SOP, 16-Leads, Body 4.9x3.9mm, Pitch 0.635mm, IPC Low Density)
3D model SOP16 (16-Pin Small Outline Package 0.635 mm Pitch)
pins: 1 IN1 (in), 2 COM1 (io), 3 NO1 (io), 4 VEE (power), 5 GND (power), 6 NO4 (io), 7 COM4 (io), 8 IN4 (in), 9 IN3 (in), 10 COM3 (io), 11 NC3 (io), 12 NC, 13 VDD (power), 14 NC2 (io), 15 COM2 (io), 16 IN2 (in)

## MAX4523CPE
designator U?
Quad, Low-Voltage, SPST Analog Switch; Published: 16-Jan-2001; LatestRevisionDate: 29-May-2009; LatestRevisionNote: Component Body Added.; DatasheetVersion: Rev 3, Oct-2001; PackageVersion: 1997; PackageReference: PE16A; Publisher: Altium Limited; PackageDescription: DIP, 16-Pin, Row Spacing 7.62 mm, Pitch 2.54 mm; Code_JEDEC: MS-001-BB; ComponentLink1Description: Manufacturer Link; ComponentLink1URL: http://www.maxim-ic.com/; ComponentLink2Description: Datasheet; ComponentLink2URL: http://pdfserv.maxim-ic.com/en/ds/MAX4521-MAX4523.pdf
footprint PE16A (DIP, 16-Leads, Row Spacing 7.62mm, Pitch 2.54mm, Body 19.18x6.99mm)
3D model PE16 (DIP, 16-Pin, Row Spacing 7.62 mm, Pitch 2.54 mm)
pins: 1 IN1 (in), 2 COM1 (io), 3 NO1 (io), 4 VEE (power), 5 GND (power), 6 NO4 (io), 7 COM4 (io), 8 IN4 (in), 9 IN3 (in), 10 COM3 (io), 11 NC3 (io), 12 NC, 13 VDD (power), 14 NC2 (io), 15 COM2 (io), 16 IN2 (in)

## MAX4523CSE
designator U?
Quad, Low-Voltage, SPST Analog Switch; Published: 16-Jan-2001; LatestRevisionDate: 13-Apr-2006; LatestRevisionNote: IPC-7351 Footprint Added.; DatasheetVersion: Rev 3, Oct-2001; PackageReference: NSO16; Publisher: Altium Limited; PackageDescription: 16-Pin Small Outline Integrated Circuit 1.27 mm Pitch; Code_JEDEC: MS-012-AC; Code_IPC: SOIC127P600-16; ComponentLink1Description: Manufacturer Link; ComponentLink1URL: http://www.maxim-ic.com/; ComponentLink2Description: Datasheet; ComponentLink2URL: http://pdfserv.maxim-ic.com/en/ds/MAX4521-MAX4523.pdf
footprint NSO16_N (SOIC, 16-Leads, Body 9.9x3.9mm, Pitch 1.27mm, IPC Medium Density)
footprint NSO16_L (SOIC, 16-Leads, Body 9.9x3.9mm, Pitch 1.27mm, IPC High Density)
footprint NSO16_M (SOIC, 16-Leads, Body 9.9x3.9mm, Pitch 1.27mm, IPC Low Density)
3D model NSO16 (16-Pin Small Outline Integrated Circuit 1.27 mm Pitch)
pins: 1 IN1 (in), 2 COM1 (io), 3 NO1 (io), 4 VEE (power), 5 GND (power), 6 NO4 (io), 7 COM4 (io), 8 IN4 (in), 9 IN3 (in), 10 COM3 (io), 11 NC3 (io), 12 NC, 13 VDD (power), 14 NC2 (io), 15 COM2 (io), 16 IN2 (in)